# EAGLE library part AIOPOUT (library ppmac)
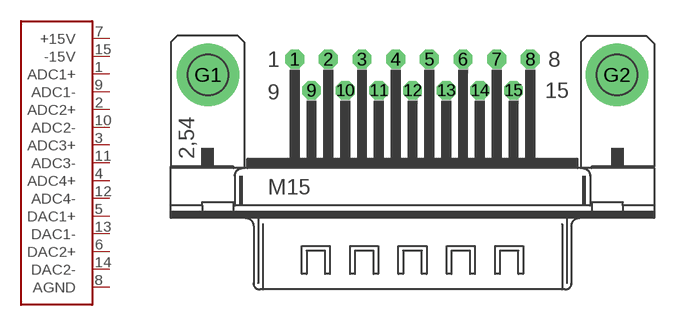
[diagram p1: symbol with the pads of M15HP; footprint M15HP]

Designator prefix -

## AIOPOUT  [M15HP]
1  ADC1+
2  ADC2+
3  ADC3+
4  ADC4+
5  DAC1+
6  DAC2+
7  +15V
8  AGND
9  ADC1-
10  ADC2-
11  ADC3-
12  ADC4-
13  DAC1-
14  DAC2-
15  -15V

## Footprint M15HP (pad centres in mm)
SUB-D
drill 1.016 octagon: 1 -9.601,1.27; 2 -6.858,1.27; 3 -4.115,1.27; 4 -1.372,1.27; 5 1.372,1.27; 6 4.115,1.27; 7 6.858,1.27; 8 9.601,1.27; 9 -8.23,-1.27; 10 -5.486,-1.27; 11 -2.743,-1.27; 12 0,-1.27; 13 2.743,-1.27; 14 5.486,-1.27; 15 8.23,-1.27
drill 3.302 pad 5.08: G1 -16.662,0; G2 16.662,0